# EAGLE library part FT323RL (library PocketCube)
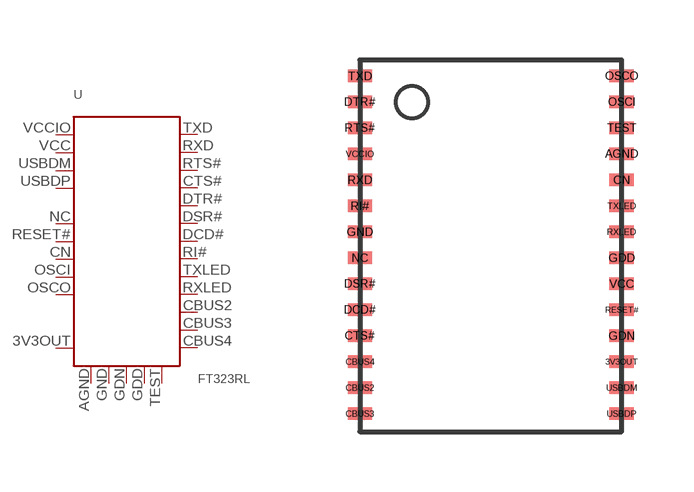
[diagram p3: symbol with the pads of FT232RL; footprint FT232RL]

Designator prefix -

## FT323RL  [FT232RL]
3V3OUT  3V3OUT
AGND  AGND
CBUS2  CUBS2
CBUS3  CBUS3
CBUS4  CUBUS4
CN  CN
CTS#  CTS#
DCD#  DCD#
DSR#  DSR#
DTR#  DTR#
GDD  GDD
GDN  GDN
GND  GND
NC  NC
OSCI  OSCI
OSCO  OSCO
RESET#  RESET#
RI#  RI#
RTS#  RTS#
RXD  RXD
RXLED  RXLED
TEST  TEST
TXD  TXD
TXLED  TXLED
USBDM  USBDM
USBDP  USBDP
VCC  VCC
VCCIO  VCCIO

## Footprint FT232RL (pad centres in mm)
smd 0.61 x 0.305: 3V3OUT 6.55,1.95; AGND 6.55,7.15; CBUS2 0,1.3; CBUS3 0,0.65; CBUS4 0,1.95; CN 6.55,6.5; CTS# 0,2.6; DCD# 0,3.25; DSR# 0,3.9; DTR# 0,8.45; GDD 6.55,4.55; GDN 6.55,2.6; GND 0,5.2; NC 0,4.55; OSCI 6.55,8.45; OSCO 6.55,9.1; RESET# 6.55,3.25; RI# 0,5.85; RTS# 0,7.8; RXD 0,6.5; RXLED 6.55,5.2; TEST 6.55,7.8; TXD 0,9.1; TXLED 6.55,5.85; USBDM 6.55,1.3; USBDP 6.55,0.65; VCC 6.55,3.9; VCCIO 0,7.15